# EAGLE library part DIN-6-MINI (library halcyonmod_Connectors)
DIN 6 - Mini Connector Commonly found on the back of a computer for PS2 keyboard and mice. Schematic and footprint are proven. Source : Unproven Supplier : Spark Fun Electronics SKU : PRT-08509
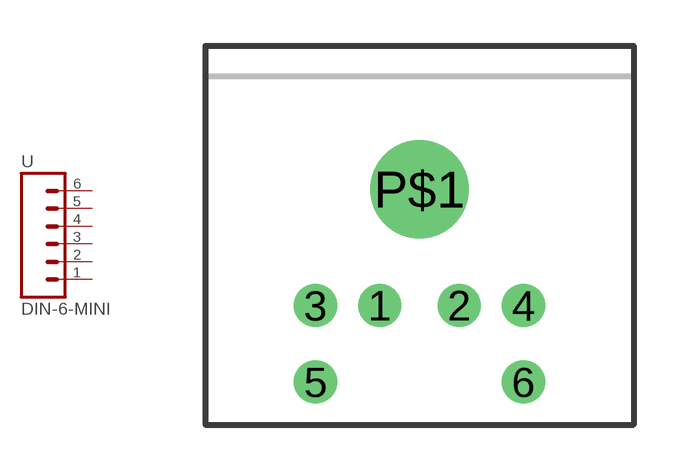
[diagram p4: symbol with the pads of DIN-6-PTH-RA-MINI; footprint DIN-6-PTH-RA-MINI]

Designator prefix -

## DIN-6-MINI-PTH-RA  [DIN-6-PTH-RA-MINI]
1  1  pas
2  2  pas
3  3  pas
4  4  pas
5  5  pas
6  6  pas

## Footprint DIN-6-PTH-RA-MINI (pad centres in mm)
drill 0.9: 1 -1.3,-8.5; 2 1.3,-8.5; 3 -3.4,-8.5; 4 3.4,-8.5; 5 -3.4,-11; 6 3.4,-11
drill 2.2: P$1 0,-4.7